# Altium schematic symbol library CK45-B3FD102KYNNA.SchLib: 1 symbol
Pins are listed as number, name and electrical type; pins without a type are passive.

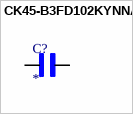
[diagram p0: symbol CK45-B3FD102KYNNA]

## CK45-B3FD102KYNNA
designator C?
1000 pF Â±10% 3000V (3kV) Ceramic Capacitor B Radial, Disc; MF: TDK; MP: CK45-B3FD102KYNNA; SnapEDA_Link: https://www.snapeda.com/parts/CK45-B3FD102KYNNA/TDK/view-part/?ref=snap; Package: None; Value: *; Check_prices: https://www.snapeda.com/parts/CK45-B3FD102KYNNA/TDK/view-part/?ref=eda
footprint CAPRB750W60L900T600H1300
pins: 1, 2